# Altium schematic symbol library DIN41612_32_2row.SchLib: 1 symbol
Pins are listed as number, name and electrical type; pins without a type are passive.

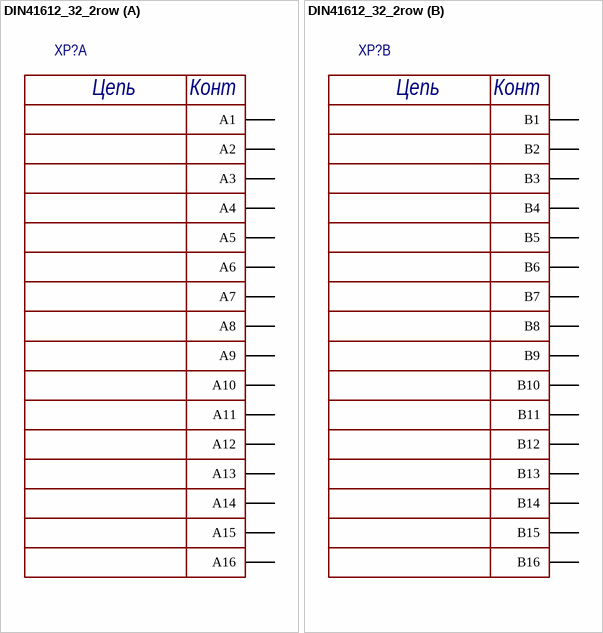
[diagram p0: symbol DIN41612_32_2row]

## DIN41612_32_2row
designator XP?
Разъем DIN-41612 32 конт. двухрядный (2x16) шаг 2.54 мм
part A pins: A1, A2, A3, A4, A5, A6, A7, A8, A9, A10, A11, A12, A13, A14, A15, A16
part B pins: B1, B2, B3, B4, B5, B6, B7, B8, B9, B10, B11, B12, B13, B14, B15, B16
part A text: Цепь; Конт
part B text: Цепь; Конт